# Altium footprint library Battery1220.PCBLIB: 1 footprints
Each footprint in its own frame and in the unit in brackets; x right, y up, seen from the top. Pads: shape width x height; smd on the part's side, far side on the other; paste and mask are expansions set on the pad; w line width, h text height; cw(c..) or ccw(c..) is an arc to the next point about the centre after c.
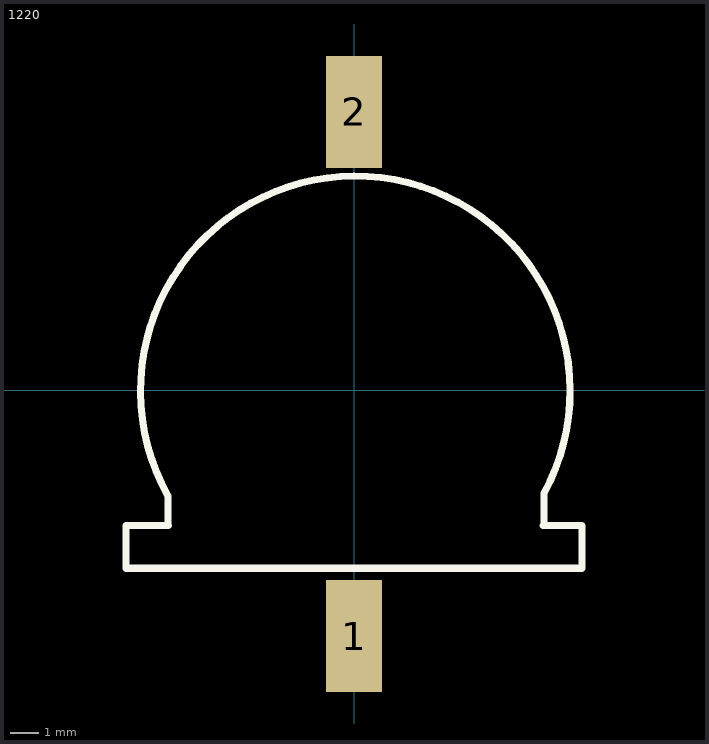
[diagram p0: the footprint, top view; thin cyan lines are the x and y axes]

## 1220 [mm]
pads (2):
  rect 2x4 smd: 1(0,-8.763) 2(0,9.906)
Top Overlay:
  lines w0.254: -8.128,-6.35 8.128,-6.35 8.128,-4.826 6.731,-4.826 6.766,-4.791 6.766,-3.688 ccw(c0.047,-0.029) -6.631,-3.762 -6.631,-4.799 -6.604,-4.826 -8.128,-4.826 -8.128,-6.35